# Altium schematic symbol library Schlib[1].SchLib: 27 symbols (part 2 of 4)
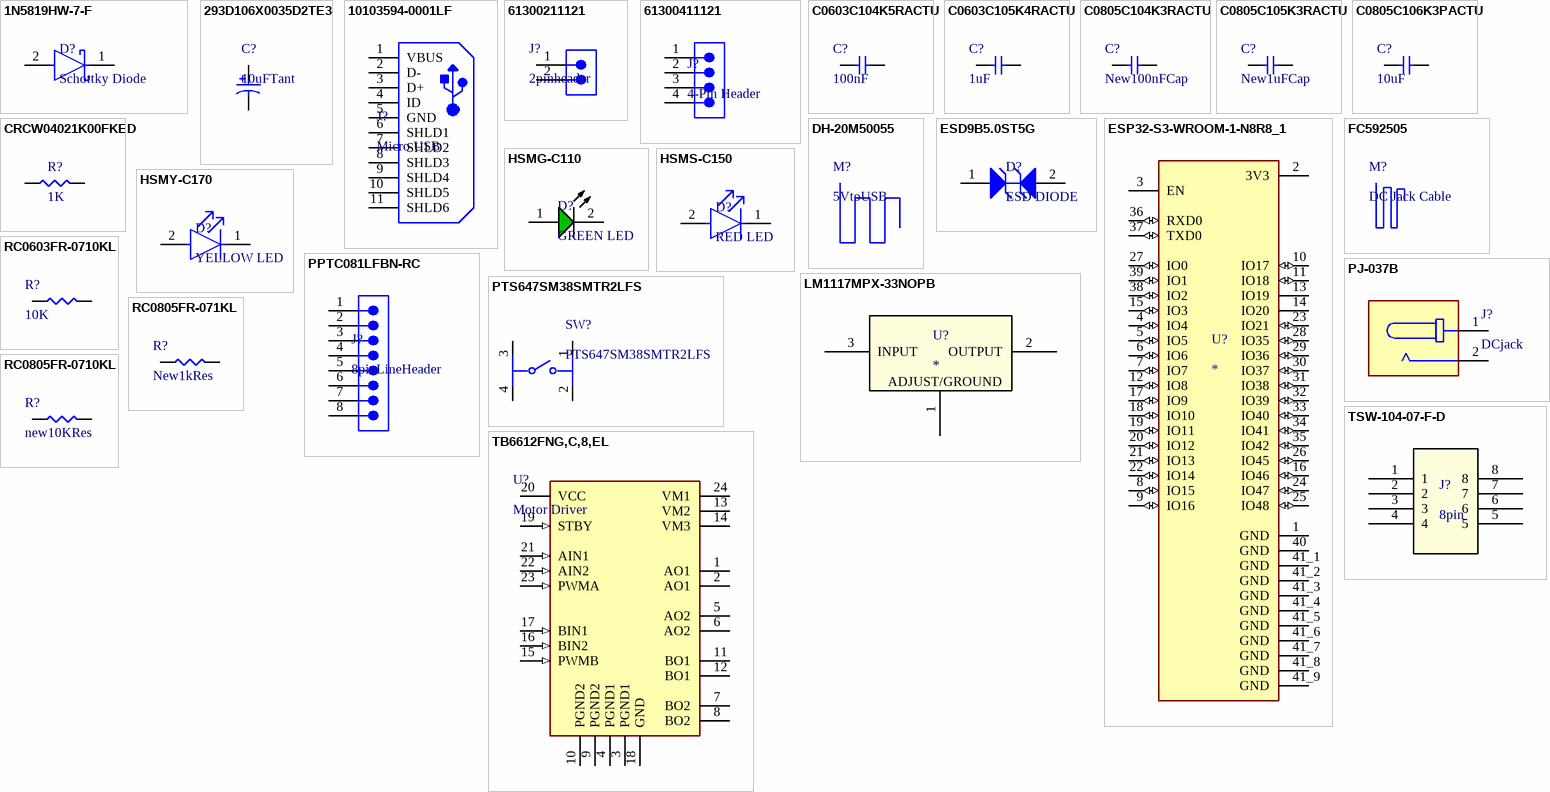
[diagram p1: symbols 1N5819HW-7-F to TSW-104-07-F-D]

## C0805C104K3RACTU
designator C?, comment New100nFCap
25V 100nF X7R ±10% 0805 Multilayer Ceramic Capacitors MLCC - SMD/SMT ROHS; Manufacturer: KEMET; Manufacturer Part Number: C0805C104K3RACTU; Temperature Coefficient: 30ppm/°C; Supplier: DigiKey; Supplier Part Number: 399-C0805C104K3RACTUCT-ND; RoHS: Compliant; Category: Ceramic Capacitors; Stock: 1480282; Pricing: 1=0.11, 10=0.062, 50=0.0428, 100=0.0371, 500=0.02736, 1000=0.02438, 4000=0.01952, 8000=0.01719, 12000=0.01709, 20000=0.01653, 28000=0.016, 40000=0.01548, 48000=0.01524, 96000=0.01442, 100000=0.01438 (USD); Value: 100nF; Case/Package: 0805; Case Code (Imperial): 0805; China RoHS: Compliant; Contact Plating: Tin; Depth: 1.25mm; Dielectric: X7R; Dielectric Material: Ceramic; Height: 780µm; Lead Free: Lead Free; Lead Pitch: 750µm; Length: 2mm; Lifecycle Status: Production; Material: Ceramic; Max Operating Temperature: 125°C; Min Operating Temperature: -55°C; Mounting Technology: Surface Mount; Pins: 2; Number of Terminals: 2; Packaging: Cut Tape; Radiation Hardening: No; REACH SVHC: Yes; Schedule B: 8532240020, 8532240020|8532240020|8532240020|8532240020|8532240020; Termination: SMD/SMT; Thickness: 889µm; Tolerance: 10%; Voltage: 25V; Voltage Rating: 25V; Voltage Rating (DC): 25V; Width: 1.25mm; ComponentLink1URL: https://datasheet.octopart.com:443/C0805C104K3RACTU-KEMET-datasheet-178445679.pdf?src-supplier=IHS; ComponentLink1Description: https://datasheet.octopart.com:443/C0805C104K3RACTU-KEMET-datasheet-178445679.pdf?src-supplier=IHS; ComponentLink2URL: https://datasheet.octopart.com:443/C0805C104K3RAC7800-KEMET-datasheet-182041123.pdf?src-supplier=IHS; ComponentLink2Description: https://datasheet.octopart.com:443/C0805C104K3RAC7800-KEMET-datasheet-182041123.pdf?src-supplier=IHS; ComponentLink3URL: https://datasheet.octopart.com:443/C0805C104K3RACTU-KEMET-datasheet-137357759.pdf?src-supplier=Farnell; ComponentLink3Description: https://datasheet.octopart.com:443/C0805C104K3RACTU-KEMET-datasheet-137357759.pdf?src-supplier=Farnell; ComponentLink4URL: https://datasheet.octopart.com:443/C0805C104K3RAC-TU-Kemet-datasheet-5313890.pdf?src-supplier=Farnell; ComponentLink4Description: https://datasheet.octopart.com:443/C0805C104K3RAC-TU-Kemet-datasheet-5313890.pdf?src-supplier=Farnell; ComponentLink5URL: https://datasheet.octopart.com:443/C0805C104K3RACTU-KEMET-datasheet-100437323.pdf?src-supplier=Farnell; ComponentLink5Description: https://datasheet.octopart.com:443/C0805C104K3RACTU-KEMET-datasheet-100437323.pdf?src-supplier=Farnell; ComponentLink6URL: https://datasheet.octopart.com:443/C0805C104K3RACTU-KEMET-datasheet-176142295.pdf?src-supplier=Farnell; ComponentLink6Description: https://datasheet.octopart.com:443/C0805C104K3RACTU-KEMET-datasheet-176142295.pdf?src-supplier=Farnell; ComponentLink7URL: https://datasheet.octopart.com:443/C0805C104K3RAC-TU-Kemet-datasheet-7833651.pdf?src-supplier=Farnell; ComponentLink7Description: https://datasheet.octopart.com:443/C0805C104K3RAC-TU-Kemet-datasheet-7833651.pdf?src-supplier=Farnell; ComponentLink8URL: https://datasheet.octopart.com:443/C0805C104K3RAC-TU-Kemet-datasheet-7601896.pdf?src-supplier=Farnell; ComponentLink8Description: https://datasheet.octopart.com:443/C0805C104K3RAC-TU-Kemet-datasheet-7601896.pdf?src-supplier=Farnell; ComponentLink9URL: https://datasheet.octopart.com:443/C0805C104K3RAC-TU-Kemet-datasheet-5316294.pdf?src-supplier=Farnell; ComponentLink9Description: https://datasheet.octopart.com:443/C0805C104K3RAC-TU-Kemet-datasheet-5316294.pdf?src-supplier=Farnell; ComponentLink10URL: https://datasheet.octopart.com:443/C0805C104K3RAC-TU-Kemet-datasheet-5314837.pdf?src-supplier=Farnell; ComponentLink10Description: https://datasheet.octopart.com:443/C0805C104K3RAC-TU-Kemet-datasheet-5314837.pdf?src-supplier=Farnell; ComponentLink11URL: https://datasheet.octopart.com:443/C0805C104K3RAC-TU-Kemet-datasheet-8092359.pdf?src-supplier=Farnell; ComponentLink11Description: https://datasheet.octopart.com:443/C0805C104K3RAC-TU-Kemet-datasheet-8092359.pdf?src-supplier=Farnell; ComponentLink12URL: https://datasheet.octopart.com:443/C0805C104K3RAC-TU-Kemet-datasheet-5314449.pdf?src-supplier=Farnell; ComponentLink12Description: https://datasheet.octopart.com:443/C0805C104K3RAC-TU-Kemet-datasheet-5314449.pdf?src-supplier=Farnell; ComponentLink13URL: https://datasheet.octopart.com:443/C0805C104K3RAC-TU-Kemet-datasheet-5390537.pdf?src-supplier=Farnell; ComponentLink13Description: https://datasheet.octopart.com:443/C0805C104K3RAC-TU-Kemet-datasheet-5390537.pdf?src-supplier=Farnell; ComponentLink14URL: https://datasheet.octopart.com:443/C0805C104K3RAC-TU-Kemet-datasheet-5314969.pdf?src-supplier=Farnell; ComponentLink14Description: https://datasheet.octopart.com:443/C0805C104K3RAC-TU-Kemet-datasheet-5314969.pdf?src-supplier=Farnell; ComponentLink15URL: https://datasheet.octopart.com:443/C0805C104K3RAC-TU-Kemet-datasheet-5314627.pdf?src-supplier=Farnell; ComponentLink15Description: https://datasheet.octopart.com:443/C0805C104K3RAC-TU-Kemet-datasheet-5314627.pdf?src-supplier=Farnell; ComponentLink16URL: https://datasheet.octopart.com:443/C0805C104K3RAC-TU-Kemet-datasheet-5389132.pdf?src-supplier=Farnell; ComponentLink16Description: https://datasheet.octopart.com:443/C0805C104K3RAC-TU-Kemet-datasheet-5389132.pdf?src-supplier=Farnell; ComponentLink17URL: https://datasheet.octopart.com:443/C0805C104K3RAC-TU-Kemet-datasheet-5313836.pdf?src-supplier=Farnell; ComponentLink17Description: https://datasheet.octopart.com:443/C0805C104K3RAC-TU-Kemet-datasheet-5313836.pdf?src-supplier=Farnell; ComponentLink18URL: https://datasheet.octopart.com:443/C0805C104K3RAC-TU-Kemet-datasheet-8111010.pdf?src-supplier=Farnell; ComponentLink18Description: https://datasheet.octopart.com:443/C0805C104K3RAC-TU-Kemet-datasheet-8111010.pdf?src-supplier=Farnell; ComponentLink19URL: https://datasheet.octopart.com:443/C0805C104K3RAC-TU-Kemet-datasheet-7541751.pdf?src-supplier=Farnell; ComponentLink19Description: https://datasheet.octopart.com:443/C0805C104K3RAC-TU-Kemet-datasheet-7541751.pdf?src-supplier=Farnell; ComponentLink20URL: https://datasheet.octopart.com:443/C0805C104K3RAC-TU-Kemet-datasheet-7627733.pdf?src-supplier=Farnell; ComponentLink20Description: https://datasheet.octopart.com:443/C0805C104K3RAC-TU-Kemet-datasheet-7627733.pdf?src-supplier=Farnell; ComponentLink21URL: https://datasheet.octopart.com:443/C0805C104K3RAC-TU-Kemet-datasheet-5315946.pdf?src-supplier=Farnell; ComponentLink21Description: https://datasheet.octopart.com:443/C0805C104K3RAC-TU-Kemet-datasheet-5315946.pdf?src-supplier=Farnell; ComponentLink22URL: https://datasheet.octopart.com:443/C0805C104K3RACTU-KEMET-datasheet-68331921.pdf?src-supplier=Upverter; ComponentLink22Description: https://datasheet.octopart.com:443/C0805C104K3RACTU-KEMET-datasheet-68331921.pdf?src-supplier=Upverter; ComponentLink23URL: https://datasheet.octopart.com:443/C0805C104K3RACTU-Kemet-datasheet-12608295.pdf?src-supplier=element14+APAC; ComponentLink23Description: https://datasheet.octopart.com:443/C0805C104K3RACTU-Kemet-datasheet-12608295.pdf?src-supplier=element14+APAC; ComponentLink24URL: https://datasheet.octopart.com:443/C0805C104K3RACTU-Kemet-datasheet-11992184.pdf?src-supplier=element14+APAC; ComponentLink24Description: https://datasheet.octopart.com:443/C0805C104K3RACTU-Kemet-datasheet-11992184.pdf?src-supplier=element14+APAC; ComponentLink25URL: https://datasheet.octopart.com:443/C0805C104K3RACTU-Kemet-datasheet-10942409.pdf?src-supplier=element14+APAC; ComponentLink25Description: https://datasheet.octopart.com:443/C0805C104K3RACTU-Kemet-datasheet-10942409.pdf?src-supplier=element14+APAC; ComponentLink26URL: https://datasheet.octopart.com:443/C0805C104K3RACTU-Kemet-datasheet-10404442.pdf?src-supplier=element14+APAC; ComponentLink26Description: https://datasheet.octopart.com:443/C0805C104K3RACTU-Kemet-datasheet-10404442.pdf?src-supplier=element14+APAC; ComponentLink27URL: https://datasheet.octopart.com:443/C0805C104K3RACTU-Kemet-datasheet-66100807.pdf?src-supplier=element14+APAC; ComponentLink27Description: https://datasheet.octopart.com:443/C0805C104K3RACTU-Kemet-datasheet-66100807.pdf?src-supplier=element14+APAC; ComponentLink28URL: https://datasheet.octopart.com:443/C0805C104K3RACTU-Kemet-datasheet-32036385.pdf?src-supplier=element14+APAC; ComponentLink28Description: https://datasheet.octopart.com:443/C0805C104K3RACTU-Kemet-datasheet-32036385.pdf?src-supplier=element14+APAC; ComponentLink29URL: https://datasheet.octopart.com:443/C0805C104K3RACTU-KEMET-datasheet-37550250.pdf?src-supplier=Electro+Sonic; ComponentLink29Description: https://datasheet.octopart.com:443/C0805C104K3RACTU-KEMET-datasheet-37550250.pdf?src-supplier=Electro+Sonic; ComponentLink30URL: https://datasheet.octopart.com:443/C0805C104K3RACTU-KEMET-datasheet-176289588.pdf?src-supplier=Newark; ComponentLink30Description: https://datasheet.octopart.com:443/C0805C104K3RACTU-KEMET-datasheet-176289588.pdf?src-supplier=Newark; ComponentLink31URL: https://datasheet.octopart.com:443/C0805C104K3RACTU-Kemet-datasheet-27203261.pdf?src-supplier=Newark; ComponentLink31Description: https://datasheet.octopart.com:443/C0805C104K3RACTU-Kemet-datasheet-27203261.pdf?src-supplier=Newark; ComponentLink32URL: https://datasheet.octopart.com:443/C0805C104K3RACTU-KEMET-datasheet-164512540.pdf?src-supplier=TME; ComponentLink32Description: https://datasheet.octopart.com:443/C0805C104K3RACTU-KEMET-datasheet-164512540.pdf?src-supplier=TME; ComponentLink33URL: https://datasheet.octopart.com:443/C0805C104K3RACTU-Kemet-datasheet-67847105.pdf?src-supplier=TME; ComponentLink33Description: https://datasheet.octopart.com:443/C0805C104K3RACTU-Kemet-datasheet-67847105.pdf?src-supplier=TME; ComponentLink34URL: https://datasheet.octopart.com:443/C0805C104K3RACTU-KEMET-datasheet-68331906.pdf?src-supplier=TME; ComponentLink34Description: https://datasheet.octopart.com:443/C0805C104K3RACTU-KEMET-datasheet-68331906.pdf?src-supplier=TME; ComponentLink35URL: https://datasheet.octopart.com:443/C0805C104K3RACTU-KEMET-datasheet-110724412.pdf?src-supplier=RS+(Formerly+Allied+Electronics); ComponentLink35Description: https://datasheet.octopart.com:443/C0805C104K3RACTU-KEMET-datasheet-110724412.pdf?src-supplier=RS+(Formerly+Allied+Electronics); ComponentLink36URL: https://datasheet.octopart.com:443/C0805C104K3RACTU-Kemet-datasheet-464.pdf?src-supplier=RS+(Formerly+Allied+Electronics); ComponentLink36Description: https://datasheet.octopart.com:443/C0805C104K3RACTU-Kemet-datasheet-464.pdf?src-supplier=RS+(Formerly+Allied+Electronics); ComponentLink37URL: https://datasheet.octopart.com/C0805C104K3RACTU-KEMET-datasheet-84169754.pdf; ComponentLink37Description: https://datasheet.octopart.com/C0805C104K3RACTU-KEMET-datasheet-84169754.pdf; ComponentLink38URL: https://datasheet.octopart.com:443/C0805C104K3RACTU-Kemet-datasheet-11780474.pdf?src-supplier=Arrow+Electronics; ComponentLink38Description: https://datasheet.octopart.com:443/C0805C104K3RACTU-Kemet-datasheet-11780474.pdf?src-supplier=Arrow+Electronics; ComponentLink39URL: https://datasheet.octopart.com:443/C0805C104K3RAC-TU-Kemet-datasheet-7628246.pdf?src-supplier=Jameco; ComponentLink39Description: https://datasheet.octopart.com:443/C0805C104K3RAC-TU-Kemet-datasheet-7628246.pdf?src-supplier=Jameco
footprint FP-CC0805-0_85-MFG
pins: 1, 2

## C0805C105K3RACTU
designator C?, comment New1uFCap
Multilayer Ceramic Capacitors MLCC – SMD/SMT; KEMET; C0805C105K3RACTU; 1 µF; 0805; 25 V; 25 V; Value: 1µF; Dielectric: X7R; Tolerance: 10%; Voltage: 25V; Supplier: DigiKey; Supplier Part Number: 399-C0805C105K3RACTUDKR-ND; Manufacturer: KEMET; Manufacturer Part Number: C0805C105K3RACTU; RoHS: Compliant; Category: Ceramic Capacitors; Stock: 337068; Pricing: 1=0.12, 10=0.068, 50=0.0474, 100=0.041, 500=0.03044, 1000=0.02719 (USD); Case/Package: 0805; Case Code (Imperial): 0805; Case Code (Metric): 2012; China RoHS: Compliant; Contact Plating: Tin; Depth: 1.25mm; Dielectric Material: Ceramic; Height: 1.25mm; Length: 2mm; Lifecycle Status: Production; Material: Ceramic; Max Operating Temperature: 125°C; Min Operating Temperature: -55°C; Mounting Technology: Surface Mount; Pins: 2; Number of Terminals: 2; Radiation Hardening: No; REACH SVHC: Yes; Schedule B: 8532240020, 8532240020|8532240020|8532240020|8532240020|8532240020|8532240020|8532240020|8532240020|8532240020|8532240020|8532240020|8532240020|8532240020|8532240020|8532240020|8532240020|8532240020|8532240020|8532240020|8532240020|8532240020|8532240020|8532240020|85; Termination: SMD/SMT; Thickness: 1.397mm; Voltage Rating: 25V; Voltage Rating (DC): 25V; Width: 1.25mm; ComponentLink1URL: https://datasheet.octopart.com:443/C0805C105K3RACTU-KEMET-datasheet-178445679.pdf?src-supplier=IHS; ComponentLink1Description: https://datasheet.octopart.com:443/C0805C105K3RACTU-KEMET-datasheet-178445679.pdf?src-supplier=IHS; ComponentLink2URL: https://datasheet.octopart.com:443/C0805C105K3RACTU-KEMET-datasheet-137357759.pdf?src-supplier=Farnell; ComponentLink2Description: https://datasheet.octopart.com:443/C0805C105K3RACTU-KEMET-datasheet-137357759.pdf?src-supplier=Farnell; ComponentLink3URL: https://datasheet.octopart.com:443/C0805C105K3RACTU-Kemet-datasheet-5313890.pdf?src-supplier=Farnell; ComponentLink3Description: https://datasheet.octopart.com:443/C0805C105K3RACTU-Kemet-datasheet-5313890.pdf?src-supplier=Farnell; ComponentLink4URL: https://datasheet.octopart.com:443/C0805C105K3RACTU-KEMET-datasheet-32036385.pdf?src-supplier=Farnell; ComponentLink4Description: https://datasheet.octopart.com:443/C0805C105K3RACTU-KEMET-datasheet-32036385.pdf?src-supplier=Farnell; ComponentLink5URL: https://datasheet.octopart.com:443/C0805C105K3RACTU-Kemet-datasheet-8764837.pdf?src-supplier=Farnell; ComponentLink5Description: https://datasheet.octopart.com:443/C0805C105K3RACTU-Kemet-datasheet-8764837.pdf?src-supplier=Farnell; ComponentLink6URL: https://datasheet.octopart.com:443/C0805C105K3RACTU-Kemet-datasheet-8480123.pdf?src-supplier=Farnell; ComponentLink6Description: https://datasheet.octopart.com:443/C0805C105K3RACTU-Kemet-datasheet-8480123.pdf?src-supplier=Farnell; ComponentLink7URL: https://datasheet.octopart.com:443/C0805C105K3RACTU-Kemet-datasheet-5390537.pdf?src-supplier=Farnell; ComponentLink7Description: https://datasheet.octopart.com:443/C0805C105K3RACTU-Kemet-datasheet-5390537.pdf?src-supplier=Farnell; ComponentLink8URL: https://datasheet.octopart.com:443/C0805C105K3RACTU-Kemet-datasheet-5393970.pdf?src-supplier=Farnell; ComponentLink8Description: https://datasheet.octopart.com:443/C0805C105K3RACTU-Kemet-datasheet-5393970.pdf?src-supplier=Farnell; ComponentLink9URL: https://datasheet.octopart.com:443/C0805C105K3RACTU-Kemet-datasheet-8502025.pdf?src-supplier=Farnell; ComponentLink9Description: https://datasheet.octopart.com:443/C0805C105K3RACTU-Kemet-datasheet-8502025.pdf?src-supplier=Farnell; ComponentLink10URL: https://datasheet.octopart.com:443/C0805C105K3RACTU-Kemet-datasheet-7541751.pdf?src-supplier=Farnell; ComponentLink10Description: https://datasheet.octopart.com:443/C0805C105K3RACTU-Kemet-datasheet-7541751.pdf?src-supplier=Farnell; ComponentLink11URL: https://datasheet.octopart.com:443/C0805C105K3RACTU-Kemet-datasheet-161801.pdf?src-supplier=Farnell; ComponentLink11Description: https://datasheet.octopart.com:443/C0805C105K3RACTU-Kemet-datasheet-161801.pdf?src-supplier=Farnell; ComponentLink12URL: https://datasheet.octopart.com:443/C0805C105K3RACTU-KEMET-datasheet-149523912.pdf?src-supplier=Farnell; ComponentLink12Description: https://datasheet.octopart.com:443/C0805C105K3RACTU-KEMET-datasheet-149523912.pdf?src-supplier=Farnell; ComponentLink13URL: https://datasheet.octopart.com:443/C0805C105K3RACTU-KEMET-datasheet-68331906.pdf?src-supplier=Farnell; ComponentLink13Description: https://datasheet.octopart.com:443/C0805C105K3RACTU-KEMET-datasheet-68331906.pdf?src-supplier=Farnell; ComponentLink14URL: https://datasheet.octopart.com:443/C0805C105K3RACTU-KEMET-datasheet-101576158.pdf?src-supplier=Farnell; ComponentLink14Description: https://datasheet.octopart.com:443/C0805C105K3RACTU-KEMET-datasheet-101576158.pdf?src-supplier=Farnell; ComponentLink15URL: https://datasheet.octopart.com:443/C0805C105K3RACTU.-Kemet-datasheet-41232427.pdf?src-supplier=Farnell; ComponentLink15Description: https://datasheet.octopart.com:443/C0805C105K3RACTU.-Kemet-datasheet-41232427.pdf?src-supplier=Farnell; ComponentLink16URL: https://datasheet.octopart.com:443/C0805C105K3RACTU-KEMET-datasheet-176142298.pdf?src-supplier=Farnell; ComponentLink16Description: https://datasheet.octopart.com:443/C0805C105K3RACTU-KEMET-datasheet-176142298.pdf?src-supplier=Farnell; ComponentLink17URL: https://datasheet.octopart.com:443/C0805C105K3RACTU-Kemet-datasheet-5340275.pdf?src-supplier=Farnell; ComponentLink17Description: https://datasheet.octopart.com:443/C0805C105K3RACTU-Kemet-datasheet-5340275.pdf?src-supplier=Farnell; ComponentLink18URL: https://datasheet.octopart.com:443/C0805C105K3RAC7800-KEMET-datasheet-188512054.pdf?src-supplier=ODG+(Origin+Data+Global); ComponentLink18Description: https://datasheet.octopart.com:443/C0805C105K3RAC7800-KEMET-datasheet-188512054.pdf?src-supplier=ODG+(Origin+Data+Global); ComponentLink19URL: https://datasheet.octopart.com:443/C0805C105K3RACTU..-Kemet-datasheet-66413465.pdf?src-supplier=element14+APAC; ComponentLink19Description: https://datasheet.octopart.com:443/C0805C105K3RACTU..-Kemet-datasheet-66413465.pdf?src-supplier=element14+APAC; ComponentLink20URL: https://datasheet.octopart.com:443/C0805C105K3RACTU-Kemet-datasheet-23692949.pdf?src-supplier=element14+APAC; ComponentLink20Description: https://datasheet.octopart.com:443/C0805C105K3RACTU-Kemet-datasheet-23692949.pdf?src-supplier=element14+APAC; ComponentLink21URL: https://datasheet.octopart.com:443/C0805C105K3RACTU-Kemet-datasheet-22084244.pdf?src-supplier=element14+APAC; ComponentLink21Description: https://datasheet.octopart.com:443/C0805C105K3RACTU-Kemet-datasheet-22084244.pdf?src-supplier=element14+APAC; ComponentLink22URL: https://datasheet.octopart.com:443/C0805C105K3RACTU-KEMET-datasheet-176289598.pdf?src-supplier=Newark; ComponentLink22Description: https://datasheet.octopart.com:443/C0805C105K3RACTU-KEMET-datasheet-176289598.pdf?src-supplier=Newark; ComponentLink23URL: https://datasheet.octopart.com:443/C0805C105K3RACTU-Kemet-datasheet-12608295.pdf?src-supplier=Newark; ComponentLink23Description: https://datasheet.octopart.com:443/C0805C105K3RACTU-Kemet-datasheet-12608295.pdf?src-supplier=Newark; ComponentLink24URL: https://datasheet.octopart.com:443/C0805C105K3RACTU-Kemet-datasheet-11992184.pdf?src-supplier=Newark; ComponentLink24Description: https://datasheet.octopart.com:443/C0805C105K3RACTU-Kemet-datasheet-11992184.pdf?src-supplier=Newark; ComponentLink25URL: https://datasheet.octopart.com:443/C0805C105K3RACTU-Kemet-datasheet-10942409.pdf?src-supplier=Newark; ComponentLink25Description: https://datasheet.octopart.com:443/C0805C105K3RACTU-Kemet-datasheet-10942409.pdf?src-supplier=Newark; ComponentLink26URL: https://datasheet.octopart.com:443/C0805C105K3RACTU-Kemet-datasheet-10404442.pdf?src-supplier=Newark; ComponentLink26Description: https://datasheet.octopart.com:443/C0805C105K3RACTU-Kemet-datasheet-10404442.pdf?src-supplier=Newark; ComponentLink27URL: https://datasheet.octopart.com:443/C0805C105K3RACTU-KEMET-datasheet-164512540.pdf?src-supplier=TME; ComponentLink27Description: https://datasheet.octopart.com:443/C0805C105K3RACTU-KEMET-datasheet-164512540.pdf?src-supplier=TME; ComponentLink28URL: https://datasheet.octopart.com:443/C0805C105K3RACTU-Kemet-datasheet-67847111.pdf?src-supplier=TME; ComponentLink28Description: https://datasheet.octopart.com:443/C0805C105K3RACTU-Kemet-datasheet-67847111.pdf?src-supplier=TME; ComponentLink29URL: https://datasheet.octopart.com:443/C0805C105K3RACTU-KEMET-datasheet-110724412.pdf?src-supplier=RS+(Formerly+Allied+Electronics); ComponentLink29Description: https://datasheet.octopart.com:443/C0805C105K3RACTU-KEMET-datasheet-110724412.pdf?src-supplier=RS+(Formerly+Allied+Electronics); ComponentLink30URL: https://datasheet.octopart.com:443/C0805C105K3RACTU-Kemet-datasheet-464.pdf?src-supplier=RS+(Formerly+Allied+Electronics); ComponentLink30Description: https://datasheet.octopart.com:443/C0805C105K3RACTU-Kemet-datasheet-464.pdf?src-supplier=RS+(Formerly+Allied+Electronics); ComponentLink31URL: https://datasheet.octopart.com/C0805C105K3RACTU-KEMET-datasheet-84169754.pdf; ComponentLink31Description: https://datasheet.octopart.com/C0805C105K3RACTU-KEMET-datasheet-84169754.pdf; ComponentLink32URL: https://datasheet.octopart.com:443/C0805C105K3RACTU-Kemet-datasheet-11765922.pdf?src-supplier=Arrow+Electronics; ComponentLink32Description: https://datasheet.octopart.com:443/C0805C105K3RACTU-Kemet-datasheet-11765922.pdf?src-supplier=Arrow+Electronics; ComponentLink33URL: https://datasheet.octopart.com:443/C0805C105K3RAC7800-KEMET-datasheet-164857143.pdf?src-supplier=Burklin+Elektronik; ComponentLink33Description: https://datasheet.octopart.com:443/C0805C105K3RAC7800-KEMET-datasheet-164857143.pdf?src-supplier=Burklin+Elektronik
footprint CAPC2013X140X50ML20T25 (Chip Capacitor, 2-Leads, Body 2.00x1.25mm, IPC Low Density)
pins: 1, 2

## C0805C106K3PACTU
designator C?, comment 10uF
0805 C 10UF Ceramic Multilayer Capacitor, 25 VDC, +85DEGC, X5R Dielec, +/-10%; Manufacturer: KEMET; Manufacturer Part Number: C0805C106K3PACTU; Value: 10µF; Dissipation Factor: 10%; Voltage: 25V; Supplier: DigiKey; Supplier Part Number: 399-11939-1-ND; RoHS: Compliant; Category: Ceramic Capacitors; Stock: 104809; Pricing: 1=0.22, 10=0.126, 50=0.0902, 100=0.0793, 500=0.0609, 1000=0.05524 (USD); Case/Package: 0805; Case Code (Imperial): 0805; Case Code (Metric): 2012; China RoHS: Compliant; Depth: 1.25mm; Dielectric: X5R; Dielectric Material: Ceramic; Height: 1.25mm; Lead Free: Lead Free; Length: 2mm; Lifecycle Status: Production; Material: Ceramic; Max Operating Temperature: 85°C; Min Operating Temperature: -55°C; Mounting Technology: Surface Mount; Number of Terminals: 2; Packaging: Cut Tape; REACH SVHC: Yes; Schedule B: 8532240020; Termination: Solder; Tolerance: 10%; Voltage Rating: 25V; Voltage Rating (DC): 25V; Width: 1.25mm; ComponentLink1URL: https://datasheet.octopart.com:443/C0805C106K3PAC7800-KEMET-datasheet-179100169.pdf?src-supplier=IHS; ComponentLink1Description: https://datasheet.octopart.com:443/C0805C106K3PAC7800-KEMET-datasheet-179100169.pdf?src-supplier=IHS; ComponentLink2URL: https://datasheet.octopart.com:443/C0805C106K3PACTU-KEMET-datasheet-178499189.pdf?src-supplier=IHS; ComponentLink2Description: https://datasheet.octopart.com:443/C0805C106K3PACTU-KEMET-datasheet-178499189.pdf?src-supplier=IHS; ComponentLink3URL: https://datasheet.octopart.com:443/C0805C106K3PACTU-KEMET-datasheet-137357760.pdf?src-supplier=Upverter; ComponentLink3Description: https://datasheet.octopart.com:443/C0805C106K3PACTU-KEMET-datasheet-137357760.pdf?src-supplier=Upverter; ComponentLink4URL: https://datasheet.octopart.com:443/C0805C106K3PACTU-KEMET-datasheet-149523942.pdf?src-supplier=Farnell; ComponentLink4Description: https://datasheet.octopart.com:443/C0805C106K3PACTU-KEMET-datasheet-149523942.pdf?src-supplier=Farnell; ComponentLink5URL: https://datasheet.octopart.com:443/C0805C106K3PACTU-KEMET-datasheet-102649117.pdf?src-supplier=Farnell; ComponentLink5Description: https://datasheet.octopart.com:443/C0805C106K3PACTU-KEMET-datasheet-102649117.pdf?src-supplier=Farnell; ComponentLink6URL: https://datasheet.octopart.com:443/C0805C106K3PACTU-KEMET-datasheet-181957627.pdf?src-supplier=Farnell; ComponentLink6Description: https://datasheet.octopart.com:443/C0805C106K3PACTU-KEMET-datasheet-181957627.pdf?src-supplier=Farnell; ComponentLink7URL: https://datasheet.octopart.com:443/C0805C106K3PACTU-KEMET-datasheet-181957626.pdf?src-supplier=Farnell; ComponentLink7Description: https://datasheet.octopart.com:443/C0805C106K3PACTU-KEMET-datasheet-181957626.pdf?src-supplier=Farnell; ComponentLink8URL: https://datasheet.octopart.com:443/C0805C106K3PACTU-KEMET-datasheet-83957821.pdf?src-supplier=TME; ComponentLink8Description: https://datasheet.octopart.com:443/C0805C106K3PACTU-KEMET-datasheet-83957821.pdf?src-supplier=TME; ComponentLink9URL: https://datasheet.octopart.com:443/C0805C106K3PACTU-KEMET-datasheet-101383854.pdf?src-supplier=TME; ComponentLink9Description: https://datasheet.octopart.com:443/C0805C106K3PACTU-KEMET-datasheet-101383854.pdf?src-supplier=TME; ComponentLink10URL: https://datasheet.octopart.com:443/C0805C106K3PACTU-Kemet-datasheet-46909776.pdf?src-supplier=element14+APAC; ComponentLink10Description: https://datasheet.octopart.com:443/C0805C106K3PACTU-Kemet-datasheet-46909776.pdf?src-supplier=element14+APAC; ComponentLink11URL: https://datasheet.octopart.com:443/C0805C106K3PACTU-Kemet-datasheet-66076755.pdf?src-supplier=element14+APAC; ComponentLink11Description: https://datasheet.octopart.com:443/C0805C106K3PACTU-Kemet-datasheet-66076755.pdf?src-supplier=element14+APAC; ComponentLink12URL: https://datasheet.octopart.com:443/C0805C106K3PACTU-KEMET-datasheet-81638446.pdf?src-supplier=Newark; ComponentLink12Description: https://datasheet.octopart.com:443/C0805C106K3PACTU-KEMET-datasheet-81638446.pdf?src-supplier=Newark; ComponentLink13URL: https://datasheet.octopart.com:443/C0805C106K3PACTU-KEMET-datasheet-176289602.pdf?src-supplier=Newark; ComponentLink13Description: https://datasheet.octopart.com:443/C0805C106K3PACTU-KEMET-datasheet-176289602.pdf?src-supplier=Newark; ComponentLink14URL: https://datasheet.octopart.com:443/C0805C106K3PACTU-KEMET-datasheet-86448548.pdf?src-supplier=Newark; ComponentLink14Description: https://datasheet.octopart.com:443/C0805C106K3PACTU-KEMET-datasheet-86448548.pdf?src-supplier=Newark; ComponentLink15URL: https://datasheet.octopart.com:443/C0805C106K3PACTU-KEMET-datasheet-110724400.pdf?src-supplier=RS+(Formerly+Allied+Electronics); ComponentLink15Description: https://datasheet.octopart.com:443/C0805C106K3PACTU-KEMET-datasheet-110724400.pdf?src-supplier=RS+(Formerly+Allied+Electronics); ComponentLink16URL: https://datasheet.octopart.com/C0805C106K3PACTU-KEMET-datasheet-84169754.pdf; ComponentLink16Description: https://datasheet.octopart.com/C0805C106K3PACTU-KEMET-datasheet-84169754.pdf
footprint FP-C0805C106K3PACTU-IPC_C
pins: 1, 2

## CRCW04021K00FKED
designator R?, comment 1K
Fixed Resistor, Metal Glaze/thick Film, 0.063W, 1000ohm, 50V, 1% +/-Tol, Surface Mount, 0402; Manufacturer: Vishay; Manufacturer Part Number: CRCW04021K00FKED; Max Power Dissipation: 63mW; Value: 1kΩ; Temperature Coefficient: 100ppm/°C; Supplier: DigiKey; Supplier Part Number: 541-1.00KLCT-ND; RoHS: Compliant; Category: Chip SMD Resistors; Stock: 3547311; Pricing: 1=0.1, 10=0.03, 25=0.0224, 50=0.018, 100=0.0148, 250=0.01156, 500=0.00974, 1000=0.00832, 5000=0.00637, 10000=0.00438, 20000=0.00433, 30000=0.0043, 50000=0.00427, 70000=0.00425, 100000=0.00414, 120000=0.00407, 240000=0.00384, 250000=0.00383 (USD); Case/Package: 0402; Case Code (Imperial): 0402; China RoHS: Non-Compliant; Composition: Thick Film; Contact Plating: Tin; Depth: 500µm; Features: Automotive AEC-Q200; Height: 350µm; Lead Free: Lead Free; Length: 1mm; Lifecycle Status: Production; Max Operating Temperature: 155°C; Military Standard: Not; Min Operating Temperature: -55°C; Mounting Technology: Surface Mount; Pins: 2; Number of Terminals: 2; Number of Terminations: 2; Packaging: Cut Tape; Power Dissipation: 63mW; Power Rating: 63mW; Radiation Hardening: No; REACH SVHC: Yes; Schedule B: 8533210045, 8533210045|8533210045, 8533210045|8533210045|8533210045, 8533210045|8533210045|8533210045|8533210045; Termination: SMD/SMT; Tolerance: 1%; Voltage Rating: 50V; Voltage Rating (DC): 50V; Weight: 652.039032µg; Width: 500µm; Working Voltage: 50V; ComponentLink1URL: https://datasheet.octopart.com:443/CRCW04021K00FKED-Vishay-datasheet-175423584.pdf?src-supplier=IHS; ComponentLink1Description: https://datasheet.octopart.com:443/CRCW04021K00FKED-Vishay-datasheet-175423584.pdf?src-supplier=IHS; ComponentLink2URL: https://datasheet.octopart.com:443/CRCW04021K00FKED-Vishay-datasheet-83961561.pdf?src-supplier=Newark; ComponentLink2Description: https://datasheet.octopart.com:443/CRCW04021K00FKED-Vishay-datasheet-83961561.pdf?src-supplier=Newark; ComponentLink3URL: https://datasheet.octopart.com:443/CRCW04021K00FKED-Vishay-datasheet-11516975.pdf?src-supplier=Newark; ComponentLink3Description: https://datasheet.octopart.com:443/CRCW04021K00FKED-Vishay-datasheet-11516975.pdf?src-supplier=Newark; ComponentLink4URL: https://datasheet.octopart.com:443/CRCW04021K00FKED-Vishay-datasheet-183883877.pdf?src-supplier=Newark; ComponentLink4Description: https://datasheet.octopart.com:443/CRCW04021K00FKED-Vishay-datasheet-183883877.pdf?src-supplier=Newark; ComponentLink5URL: https://datasheet.octopart.com:443/CRCW04021K00FKED-Vishay-datasheet-41302739.pdf?src-supplier=Newark; ComponentLink5Description: https://datasheet.octopart.com:443/CRCW04021K00FKED-Vishay-datasheet-41302739.pdf?src-supplier=Newark; ComponentLink6URL: https://datasheet.octopart.com:443/CRCW04021K00FKED-Vishay-datasheet-66077789.pdf?src-supplier=element14+APAC; ComponentLink6Description: https://datasheet.octopart.com:443/CRCW04021K00FKED-Vishay-datasheet-66077789.pdf?src-supplier=element14+APAC; ComponentLink7URL: https://datasheet.octopart.com:443/CRCW04021K00FKED-Vishay-datasheet-62317933.pdf?src-supplier=element14+APAC; ComponentLink7Description: https://datasheet.octopart.com:443/CRCW04021K00FKED-Vishay-datasheet-62317933.pdf?src-supplier=element14+APAC; ComponentLink8URL: https://datasheet.octopart.com:443/CRCW04021K00FKED-Vishay-datasheet-14722531.pdf?src-supplier=element14+APAC; ComponentLink8Description: https://datasheet.octopart.com:443/CRCW04021K00FKED-Vishay-datasheet-14722531.pdf?src-supplier=element14+APAC; ComponentLink9URL: https://datasheet.octopart.com:443/CRCW04021K00FKED.-Vishay-datasheet-78776209.pdf?src-supplier=element14+APAC; ComponentLink9Description: https://datasheet.octopart.com:443/CRCW04021K00FKED.-Vishay-datasheet-78776209.pdf?src-supplier=element14+APAC; ComponentLink10URL: https://datasheet.octopart.com:443/CRCW04021K00FKED-Vishay-datasheet-5300368.pdf?src-supplier=Future+Electronics; ComponentLink10Description: https://datasheet.octopart.com:443/CRCW04021K00FKED-Vishay-datasheet-5300368.pdf?src-supplier=Future+Electronics; ComponentLink11URL: https://datasheet.octopart.com:443/CRCW04021K00FKED-Vishay-datasheet-62316122.pdf?src-supplier=Future+Electronics; ComponentLink11Description: https://datasheet.octopart.com:443/CRCW04021K00FKED-Vishay-datasheet-62316122.pdf?src-supplier=Future+Electronics; ComponentLink12URL: https://datasheet.octopart.com:443/CRCW04021K00FKED-Vishay-datasheet-5306405.pdf?src-supplier=RS+(Formerly+Allied+Electronics); ComponentLink12Description: https://datasheet.octopart.com:443/CRCW04021K00FKED-Vishay-datasheet-5306405.pdf?src-supplier=RS+(Formerly+Allied+Electronics); ComponentLink13URL: https://datasheet.octopart.com:443/CRCW04021K00FKED-Vishay-Dale-datasheet-47688880.pdf?src-supplier=RS+(Formerly+Allied+Electronics); ComponentLink13Description: https://datasheet.octopart.com:443/CRCW04021K00FKED-Vishay-Dale-datasheet-47688880.pdf?src-supplier=RS+(Formerly+Allied+Electronics); ComponentLink14URL: https://datasheet.octopart.com:443/CRCW04021K00FKED-Vishay-datasheet-12001583.pdf?src-supplier=RS+(Formerly+Allied+Electronics); ComponentLink14Description: https://datasheet.octopart.com:443/CRCW04021K00FKED-Vishay-datasheet-12001583.pdf?src-supplier=RS+(Formerly+Allied+Electronics); ComponentLink15URL: https://datasheet.octopart.com:443/CRCW04021K00FKED-Vishay-datasheet-62332075.pdf?src-supplier=TME; ComponentLink15Description: https://datasheet.octopart.com:443/CRCW04021K00FKED-Vishay-datasheet-62332075.pdf?src-supplier=TME; ComponentLink16URL: https://datasheet.octopart.com:443/CRCW04021K00FKED-Vishay-datasheet-13242068.pdf?src-supplier=Farnell; ComponentLink16Description: https://datasheet.octopart.com:443/CRCW04021K00FKED-Vishay-datasheet-13242068.pdf?src-supplier=Farnell; ComponentLink17URL: https://datasheet.octopart.com:443/CRCW04021K00FKED-Vishay-datasheet-13195083.pdf?src-supplier=Farnell; ComponentLink17Description: https://datasheet.octopart.com:443/CRCW04021K00FKED-Vishay-datasheet-13195083.pdf?src-supplier=Farnell; ComponentLink18URL: https://datasheet.octopart.com:443/CRCW04021K00FKED-Vishay-datasheet-13034211.pdf?src-supplier=Farnell; ComponentLink18Description: https://datasheet.octopart.com:443/CRCW04021K00FKED-Vishay-datasheet-13034211.pdf?src-supplier=Farnell; ComponentLink19URL: https://datasheet.octopart.com:443/CRCW04021K00FKED-Vishay-datasheet-12600034.pdf?src-supplier=Farnell; ComponentLink19Description: https://datasheet.octopart.com:443/CRCW04021K00FKED-Vishay-datasheet-12600034.pdf?src-supplier=Farnell; ComponentLink20URL: https://datasheet.octopart.com:443/CRCW04021K00FKED-Vishay-datasheet-12532161.pdf?src-supplier=Farnell; ComponentLink20Description: https://datasheet.octopart.com:443/CRCW04021K00FKED-Vishay-datasheet-12532161.pdf?src-supplier=Farnell; ComponentLink21URL: https://datasheet.octopart.com:443/CRCW04021K00FKED-Vishay-datasheet-12517896.pdf?src-supplier=Farnell; ComponentLink21Description: https://datasheet.octopart.com:443/CRCW04021K00FKED-Vishay-datasheet-12517896.pdf?src-supplier=Farnell; ComponentLink22URL: https://datasheet.octopart.com:443/CRCW04021K00FKED-Vishay-datasheet-12509762.pdf?src-supplier=Farnell; ComponentLink22Description: https://datasheet.octopart.com:443/CRCW04021K00FKED-Vishay-datasheet-12509762.pdf?src-supplier=Farnell; ComponentLink23URL: https://datasheet.octopart.com:443/CRCW04021K00FKED-Vishay-datasheet-10322335.pdf?src-supplier=Farnell; ComponentLink23Description: https://datasheet.octopart.com:443/CRCW04021K00FKED-Vishay-datasheet-10322335.pdf?src-supplier=Farnell; ComponentLink24URL: https://datasheet.octopart.com:443/CRCW04021K00FKED-Vishay-datasheet-8788789.pdf?src-supplier=Farnell; ComponentLink24Description: https://datasheet.octopart.com:443/CRCW04021K00FKED-Vishay-datasheet-8788789.pdf?src-supplier=Farnell; ComponentLink25URL: https://datasheet.octopart.com:443/CRCW04021K00FKED-Vishay-datasheet-8361388.pdf?src-supplier=Farnell; ComponentLink25Description: https://datasheet.octopart.com:443/CRCW04021K00FKED-Vishay-datasheet-8361388.pdf?src-supplier=Farnell; ComponentLink26URL: https://datasheet.octopart.com:443/CRCW04021K00FKED-Vishay-datasheet-546287.pdf?src-supplier=Farnell; ComponentLink26Description: https://datasheet.octopart.com:443/CRCW04021K00FKED-Vishay-datasheet-546287.pdf?src-supplier=Farnell; ComponentLink27URL: https://datasheet.octopart.com:443/CRCW04021K00FKED-Vishay-datasheet-11540273.pdf?src-supplier=Arrow+Electronics; ComponentLink27Description: https://datasheet.octopart.com:443/CRCW04021K00FKED-Vishay-datasheet-11540273.pdf?src-supplier=Arrow+Electronics; ComponentLink28URL: https://datasheet.octopart.com:443/CRCW04021K00FKED-Vishay-datasheet-8445837.pdf?src-supplier=element14; ComponentLink28Description: https://datasheet.octopart.com:443/CRCW04021K00FKED-Vishay-datasheet-8445837.pdf?src-supplier=element14; ComponentLink29URL: https://datasheet.octopart.com:443/CRCW04021K00FKED-Vishay-datasheet-5377255.pdf?src-supplier=Garrett; ComponentLink29Description: https://datasheet.octopart.com:443/CRCW04021K00FKED-Vishay-datasheet-5377255.pdf?src-supplier=Garrett; ComponentLink30URL: https://datasheet.octopart.com:443/CRCW04021K00FKED-Vishay-datasheet-148188.pdf?src-supplier=Garrett; ComponentLink30Description: https://datasheet.octopart.com:443/CRCW04021K00FKED-Vishay-datasheet-148188.pdf?src-supplier=Garrett; ComponentLink31URL: https://datasheet.octopart.com:443/CRCW04021K00FKED-Vishay-datasheet-42367.pdf?src-supplier=Garrett; ComponentLink31Description: https://datasheet.octopart.com:443/CRCW04021K00FKED-Vishay-datasheet-42367.pdf?src-supplier=Garrett; ComponentLink32URL: http://sigma.octopart.com:80/rohs_statement/Vishay-company-15.pdf?src-supplier=Compliance+Statements; ComponentLink32Description: http://sigma.octopart.com:80/rohs_statement/Vishay-company-15.pdf?src-supplier=Compliance+Statements
footprint FP-CRCW0402-e3-IPC_B
pins: 1, 2

## DH-20M50055
designator M?, comment 5VtoUSB  (mechanical)
Usb Am to Usb Micro, Usb 2.0 - 1; Manufacturer: CviLux; Manufacturer Part Number: DH-20M50055; Supplier: DigiKey; Supplier Part Number: 2987-DH-20M50055-ND; Category: Uncategorized; Stock: 6106; Pricing: 1=1.55, 10=1.317, 25=1.2344, 50=1.1754, 100=1.1193, 250=1.04916, 500=0.99906, 1000=0.95137, 2500=0.89183 (USD)

## ESD9B5.0ST5G
designator D?, comment ESD DIODE
5.8V Bidirectional 5V SOD-923 ESD and Surge Protection (TVS/ESD) ROHS; Manufacturer: onsemi; Manufacturer Part Number: ESD9B5.0ST5G; Manufacturer Lifecycle Status: ACTIVE; Breakdown Voltage: 6.8V; Value: 15pF; Clamping Voltage: 12.5V; Element Configuration: Single; ESD Protection: Yes; Leakage Current: 1µA; Max Breakdown Voltage: 7.8V; Max Junction Temperature (Tj): 150°C; Max Power Dissipation: 300mW; Max Surge Current: 1A; Number of Bidirectional Channels: 1; Peak Pulse Current: 2A; Peak Reverse Current: 100nA; Polarity: Unidirectional; Power Line Protection: No; Test Current: 1mA; Supplier: DigiKey; Supplier Part Number: ESD9B5.0ST5GOSCT-ND; RoHS: Compliant; Category: TVS Diodes; Stock: 480940; Pricing: 1=0.1, 10=0.018 (USD); Case/Package: SOD-923-2; China RoHS: Compliant; Composition: Zener; Contact Plating: Tin; Depth: 600µm; Direction: Bidirectional; Halogen Free: Halogen Free; Height: 400µm; Lead Free: Lead Free; Length: 800µm; Lifecycle Status: Production; Max Operating Temperature: 150°C; Max Reverse Leakage Current: 1µA; Min Breakdown Voltage: 5.8V; Min Operating Temperature: -55°C; Number of Channels: 1; Number of Elements: 1; Number of Lines: 1; Pins: 2; Number of Terminals: 2; Operating Supply Voltage: 5V; Packaging: Tape and Reel; Peak Pulse Power: 300mW; Radiation Hardening: No; REACH SVHC: Yes; Reverse Breakdown Voltage: 5.8V; Reverse Standoff Voltage: 5V; Schedule B: 8536300000, 8536300000|8536300000|8536300000|8536300000|8536300000|8536300000|8536300000|8536300000|8536300000|8536300000|8536300000|8536300000|8536300000|8536300000|8536300000|8536300000|8536300000|8536300000|8536300000|8536300000|8536300000|8536300000|8536300000|85; Termination: SMD/SMT; Width: 650µm; Working Voltage: 5V; ComponentLink1URL: https://datasheet.octopart.com:443/ESD9B5.0ST5G-onsemi-datasheet-180958915.pdf?src-supplier=IHS; ComponentLink1Description: https://datasheet.octopart.com:443/ESD9B5.0ST5G-onsemi-datasheet-180958915.pdf?src-supplier=IHS; ComponentLink2URL: https://datasheet.octopart.com:443/ESD9B5.0ST5G-ON-Semiconductor-datasheet-102157924.pdf?src-supplier=Upverter; ComponentLink2Description: https://datasheet.octopart.com:443/ESD9B5.0ST5G-ON-Semiconductor-datasheet-102157924.pdf?src-supplier=Upverter; ComponentLink3URL: https://datasheet.octopart.com:443/ESD9B5.0ST5G-onsemi-datasheet-164326709.pdf?src-supplier=Upverter; ComponentLink3Description: https://datasheet.octopart.com:443/ESD9B5.0ST5G-onsemi-datasheet-164326709.pdf?src-supplier=Upverter; ComponentLink4URL: https://sigma.octopart.com:443/141945501/technical_drawing/onsemi-ESD9B5.0ST5G.pdf?src-supplier=Upverter; ComponentLink4Description: https://sigma.octopart.com:443/141945501/technical_drawing/onsemi-ESD9B5.0ST5G.pdf?src-supplier=Upverter; ComponentLink5URL: https://datasheet.octopart.com:443/ESD9B5.0ST5G-ON-Semiconductor-datasheet-31820553.pdf?src-supplier=Upverter; ComponentLink5Description: https://datasheet.octopart.com:443/ESD9B5.0ST5G-ON-Semiconductor-datasheet-31820553.pdf?src-supplier=Upverter; ComponentLink6URL: https://datasheet.octopart.com:443/ESD9B5.0ST5G-ON-Semiconductor-datasheet-10979971.pdf?src-supplier=JRH+Electronics; ComponentLink6Description: https://datasheet.octopart.com:443/ESD9B5.0ST5G-ON-Semiconductor-datasheet-10979971.pdf?src-supplier=JRH+Electronics; ComponentLink7URL: https://datasheet.octopart.com:443/ESD9B5.0ST5G-ON-Semiconductor-datasheet-43892613.pdf?src-supplier=Newark; ComponentLink7Description: https://datasheet.octopart.com:443/ESD9B5.0ST5G-ON-Semiconductor-datasheet-43892613.pdf?src-supplier=Newark; ComponentLink8URL: https://datasheet.octopart.com:443/ESD9B5.0ST5G-ON-Semiconductor-datasheet-8324281.pdf?src-supplier=Farnell; ComponentLink8Description: https://datasheet.octopart.com:443/ESD9B5.0ST5G-ON-Semiconductor-datasheet-8324281.pdf?src-supplier=Farnell; ComponentLink9URL: https://datasheet.octopart.com:443/ESD9B5.0ST5G-onsemi-datasheet-164731318.pdf?src-supplier=ODG+(Origin+Data+Global); ComponentLink9Description: https://datasheet.octopart.com:443/ESD9B5.0ST5G-onsemi-datasheet-164731318.pdf?src-supplier=ODG+(Origin+Data+Global); ComponentLink10URL: https://datasheet.octopart.com:443/ESD9B5.0ST5G-ON-Semiconductor-datasheet-14050548.pdf?src-supplier=iiiC; ComponentLink10Description: https://datasheet.octopart.com:443/ESD9B5.0ST5G-ON-Semiconductor-datasheet-14050548.pdf?src-supplier=iiiC; ComponentLink11URL: http://sigma.octopart.com:80/15540786/rohs_certificate/ON-Semiconductor-ESD9B5.0ST5G.pdf?src-supplier=Compliance+Statements; ComponentLink11Description: http://sigma.octopart.com:80/15540786/rohs_certificate/ON-Semiconductor-ESD9B5.0ST5G.pdf?src-supplier=Compliance+Statements; ComponentLink12URL: http://sigma.octopart.com:80/15676168/materials_sheet/ON-Semiconductor-ESD9B5.0ST5G.csv?src-supplier=Compliance+Statements; ComponentLink12Description: http://sigma.octopart.com:80/15676168/materials_sheet/ON-Semiconductor-ESD9B5.0ST5G.csv?src-supplier=Compliance+Statements; ComponentLink13URL: http://sigma.octopart.com:80/150607598/rohs_statement/ON-Semiconductor-ESD9B5.0ST5G.pdf?src-supplier=Compliance+Statements; ComponentLink13Description: http://sigma.octopart.com:80/150607598/rohs_statement/ON-Semiconductor-ESD9B5.0ST5G.pdf?src-supplier=Compliance+Statements; ComponentLink14URL: http://sigma.octopart.com:80/reach_statement/ON-Semiconductor-company-79.pdf?src-supplier=Compliance+Statements; ComponentLink14Description: http://sigma.octopart.com:80/reach_statement/ON-Semiconductor-company-79.pdf?src-supplier=Compliance+Statements; ComponentLink15URL: https://octopart.com:443/opatz8j6/c1?t=XtpWH1-n59Nv97GpxeIMeHBNoxt5g4S9bQ9QnT6FqtsvICeTGkSw5iyTUKBLo0IreNXT5t3AMffPQ0sdNKdknHOm0nz1F09QQR3mOZmgbbFWUrY4RF3x-bhmC_Z-XjWywbxv9QDvbwvhpgGaRWZ5lQqCl3K795s9mZLZ92Wvm06CQ47iAhAwJvQ9SkryRdQoBq0pMJNPiTEI8WXrEODmoHD5ktIehnxnaf8ca6nm1MFYDk6vo6g3Leelyy63yO-FU8WMhohDT9xT0SK97mH-4J-vryFITMukHi1AYkEKV-tK_HgJsBQue_0FPI1KRnbIF_8MedQFCTScKvzDmqBnhH-esSUU19M39aV-Hye4&src-supplier=Compliance+Statements; ComponentLink15Description: https://octopart.com:443/opatz8j6/c1?t=XtpWH1-n59Nv97GpxeIMeHBNoxt5g4S9bQ9QnT6FqtsvICeTGkSw5iyTUKBLo0IreNXT5t3AMffPQ0sdNKdknHOm0nz1F09QQR3mOZmgbbFWUrY4RF3x-bhmC_Z-XjWywbxv9QDvbwvhpgGaRWZ5lQqCl3K795s9mZLZ92Wvm06CQ47iAhAwJvQ9SkryRdQoBq0pMJNPiTEI8WXrEODmoHD5ktIehnxnaf8ca6nm1MFYDk6vo6g3Leelyy63yO-FU8WMhohDT9xT0SK97mH-4J-vryFITMukHi1AYkEKV-tK_HgJsBQue_0FPI1KRnbIF_8MedQFCTScKvzDmqBnhH-esSUU19M39aV-Hye4&src-supplier=Compliance+Statements; ComponentLink16URL: https://octopart.com:443/opatz8j6/c1?t=ukQZya117aficN5Owusg0RdHerDMW0hZBhe1r8m_np9fwSIxwBwHeh5-IvO_UWXWH3WcOOwp_gPK3N92O5SqqlJVydiayIStyFqQOvO-Hbhs0kY7GI_m-bAamyuzgyxbeoYYxS3z_UnhuNSquB5LezYHRAQLi67e8aJSNvNkUDJzh5ZU-Qy774PXzfKH9SwEUqfzjA30ZQvTVW1KskQAX5jdhheWoVajRRb1L5lwmDODTRwD4XPTboWpzb6nOMmLPVjRCgqhZes7YdPyVxDRq8iBNm7wgEfc16MtwkTc6-eeNDmlCq1LVMxYxr7YSEfDWt893Z6Wt1Oi2NurFZ39qJh1jVO1gjbLWIchtW_FmA&src-supplier=Compliance+Statements; ComponentLink16Description: https://octopart.com:443/opatz8j6/c1?t=ukQZya117aficN5Owusg0RdHerDMW0hZBhe1r8m_np9fwSIxwBwHeh5-IvO_UWXWH3WcOOwp_gPK3N92O5SqqlJVydiayIStyFqQOvO-Hbhs0kY7GI_m-bAamyuzgyxbeoYYxS3z_UnhuNSquB5LezYHRAQLi67e8aJSNvNkUDJzh5ZU-Qy774PXzfKH9SwEUqfzjA30ZQvTVW1KskQAX5jdhheWoVajRRb1L5lwmDODTRwD4XPTboWpzb6nOMmLPVjRCgqhZes7YdPyVxDRq8iBNm7wgEfc16MtwkTc6-eeNDmlCq1LVMxYxr7YSEfDWt893Z6Wt1Oi2NurFZ39qJh1jVO1gjbLWIchtW_FmA&src-supplier=Compliance+Statements
footprint ONSC-SOD-923-2-514AB-01_V (SOD, 2-Leads, Body 0.8x0.6mm)
pins: 1 A1, 2 A2

## ESP32-S3-WROOM-1-N8R8_1
designator U?
SMD module, ESP32-S3R8 with 8 MB Octal PSRAM die inside, 8 MB Quad SPI flash, P; MF: Espressif Systems; MP: ESP32-S3-WROOM-1-N8R8; Max Supply Voltage: 3.6V; Min Supply Voltage: 3V; Operating Supply Voltage: 3.3V; Package: None; Price: None; Check_prices: https://www.snapeda.com/parts/ESP32-S3-WROOM-1-N8R8/Espressif+Systems/view-part/?ref=eda; Value: *; SnapEDA_Link: https://www.snapeda.com/parts/ESP32-S3-WROOM-1-N8R8/Espressif+Systems/view-part/?ref=snap; Availability: In Stock; Purchase-URL: https://pricing.snapeda.com/search?q=ESP32-S3-WROOM-1-N8R8&ref=eda; Supplier: DigiKey; Supplier Part Number: 5407-ESP32-S3-WROOM-1-N8R8DKR-ND; Manufacturer: Espressif Systems; Manufacturer Part Number: ESP32-S3-WROOM-1-N8R8; RoHS: Compliant; Category: RF Transceiver Modules and Modems; Stock: 8462; Pricing: 1=6.13, 10=5.313, 25=5.0276, 100=4.635, 250=4.39984 (USD); Height - Seated (Max): 3.25mm; Length: 25.5mm; Max Operating Temperature: 65°C; Min Operating Temperature: -40°C; Number of Terminals: 41; REACH SVHC: Yes; Terminal Pitch: 1.27mm; Width: 18mm; ComponentLink1URL: https://datasheet.octopart.com:443/ESP32-S3-WROOM-1-N8R8-Espressif-Systems-datasheet-165560563.pdf?src-supplier=IHS; ComponentLink1Description: https://datasheet.octopart.com:443/ESP32-S3-WROOM-1-N8R8-Espressif-Systems-datasheet-165560563.pdf?src-supplier=IHS; ComponentLink2URL: https://datasheet.octopart.com:443/ESP32-S3-WROOM-1-N8R8-Espressif-Systems-datasheet-175575506.pdf?src-supplier=SOS+electronic; ComponentLink2Description: https://datasheet.octopart.com:443/ESP32-S3-WROOM-1-N8R8-Espressif-Systems-datasheet-175575506.pdf?src-supplier=SOS+electronic; ComponentLink3URL: https://datasheet.octopart.com:443/ESP32-S3-WROOM-1-N8R8-Espressif-Systems-datasheet-164663773.pdf?src-supplier=SOS+electronic; ComponentLink3Description: https://datasheet.octopart.com:443/ESP32-S3-WROOM-1-N8R8-Espressif-Systems-datasheet-164663773.pdf?src-supplier=SOS+electronic; ComponentLink4URL: https://datasheet.octopart.com:443/ESP32-S3-WROOM-1-N8R8-Espressif-Systems-datasheet-188867343.pdf?src-supplier=TME; ComponentLink4Description: https://datasheet.octopart.com:443/ESP32-S3-WROOM-1-N8R8-Espressif-Systems-datasheet-188867343.pdf?src-supplier=TME; ComponentLink5URL: https://datasheet.octopart.com:443/ESP32-S3-WROOM-1-N8R8-Espressif-Systems-datasheet-165560559.pdf?src-supplier=TME; ComponentLink5Description: https://datasheet.octopart.com:443/ESP32-S3-WROOM-1-N8R8-Espressif-Systems-datasheet-165560559.pdf?src-supplier=TME; Supplier 1: DigiKey; Supplier Part Number 1: 5407-ESP32-S3-WROOM-1-N8R8CT-ND
footprint XCVR_ESP32S3WROOM1N8R8
pins: 1 GND (power), 2 3V3 (power), 3 EN, 4 IO4 (io), 5 IO5 (io), 6 IO6 (io), 7 IO7 (io), 8 IO15 (io), 9 IO16 (io), 10 IO17 (io), 11 IO18 (io), 12 IO8 (io), 13 IO19, 14 IO20, 15 IO3 (io), 16 IO46 (io), 17 IO9 (io), 18 IO10 (io), 19 IO11 (io), 20 IO12 (io), 21 IO13 (io), 22 IO14 (io), 23 IO21 (io), 24 IO47 (io), 25 IO48 (io), 26 IO45 (io), 27 IO0 (io), 28 IO35 (io), 29 IO36 (io), 30 IO37 (io), 31 IO38 (io), 32 IO39 (io), 33 IO40 (io), 34 IO41 (io), 35 IO42 (io), 36 RXD0 (io), 37 TXD0 (io), 38 IO2 (io), 39 IO1 (io), 40 GND (power), 41_1 GND (power), 41_2 GND (power), 41_3 GND (power), 41_4 GND (power), 41_5 GND (power), 41_6 GND (power), 41_7 GND (power), 41_8 GND (power), 41_9 GND (power)

## FC592505
designator M?, comment DC Jack Cable  (mechanical)
Dc Pwr Cord, 2.5Mm Pl-Free End, 0.5M/Blk Rohs Compliant: Yes |Cliff Electronic Components FC592505; Manufacturer: Cliff; Supplier: DigiKey; Supplier Part Number: 4654-FC592505-ND; Manufacturer Part Number: FC592505; Category: Power Cords; Stock: 68; Pricing: 1=1.92, 10=1.629, 25=1.5264, 50=1.4536, 100=1.3841, 300=1.28073, 500=1.2354, 1000=1.17644, 2500=1.10282 (USD); ComponentLink1URL: https://datasheet.octopart.com:443/FC592505-Cliff-datasheet-189913458.pdf?src-supplier=element14+APAC; ComponentLink1Description: https://datasheet.octopart.com:443/FC592505-Cliff-datasheet-189913458.pdf?src-supplier=element14+APAC